# Altium footprint library RD205SMD_250D.PcbLib: 1 footprints
Each footprint in its own frame and in the unit in brackets; x right, y up, seen from the top. Pads: shape width x height; smd on the part's side, far side on the other; paste and mask are expansions set on the pad; w line width, h text height; cw(c..) or ccw(c..) is an arc to the next point about the centre after c.
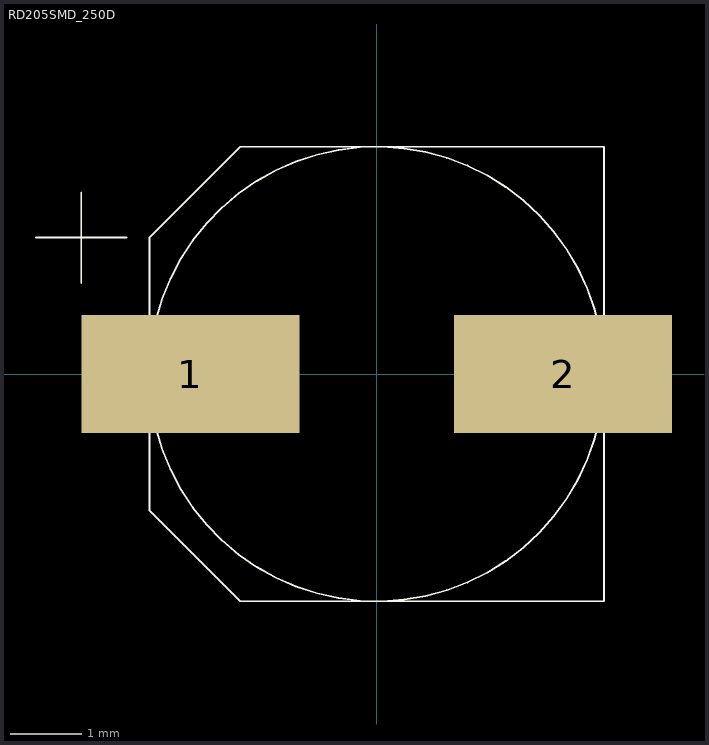
[diagram p0: the footprint, top view; thin cyan lines are the x and y axes]

## RD205SMD_250D [mil]
pads (2):
  rect 120x65 smd mask+2: 1(-102.5,0) 2(102.5,0)
Top Overlay:
  circle w1: c0,0 r125
  lines w1: -187.5,75 -137.5,75 ; -162.5,50 -162.5,100 ; -125,-75 -125,75 -75,125 125,125 125,-125 -75,-125 -125,-75